# EAGLE library part BAUART1 (library CC1101)
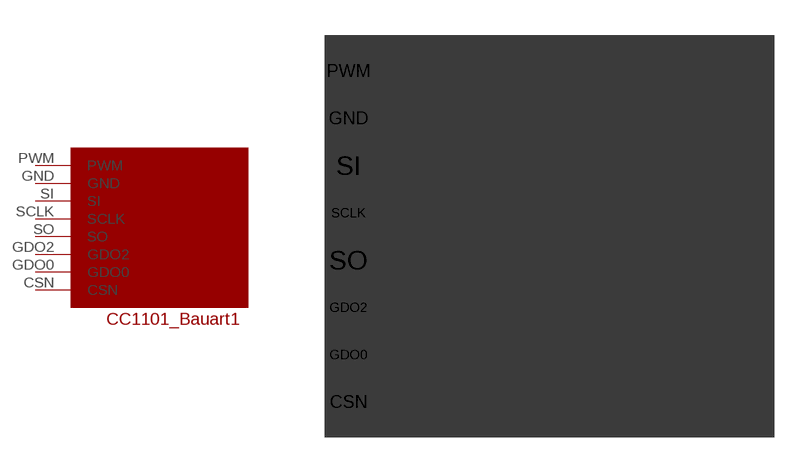
[diagram p0: symbol with the pads of BAUART1; footprint BAUART1]

Designator prefix -

## BAUART1  [BAUART1]
CSN  CSN
GDO0  GDO0
GDO2  GDO2
GND  GND  pwr
PWM  PWM  pwr
SCLK  SCLK
SI  SI
SO  SO

## Footprint BAUART1 (pad centres in mm)
drill 0.7 pad 1.016: CSN -8,-7.5; GDO0 -8,-5.5; GDO2 -8,-3.5; GND -8,4.5; PWM -8,6.5; SCLK -8,0.5; SI -8,2.5; SO -8,-1.5